# Altium schematic symbol library CRAFTSchlib.SchLib: 2 symbols
Pins are listed as number, name and electrical type; pins without a type are passive.

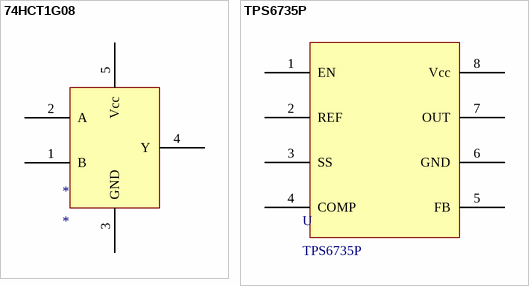
[diagram p0: symbols 74HCT1G08 to TPS6735P]

## 74HCT1G08
designator *
pins: 1 B, 2 A, 3 GND, 4 Y, 5 Vcc

## TPS6735P
designator U
footprint DIP794W45P254L959H508Q8
pins: 1 EN, 2 REF, 3 SS, 4 COMP, 5 FB, 6 GND, 7 OUT, 8 Vcc